# EAGLE library part SN65HVD230/1 (library texas_instruments)
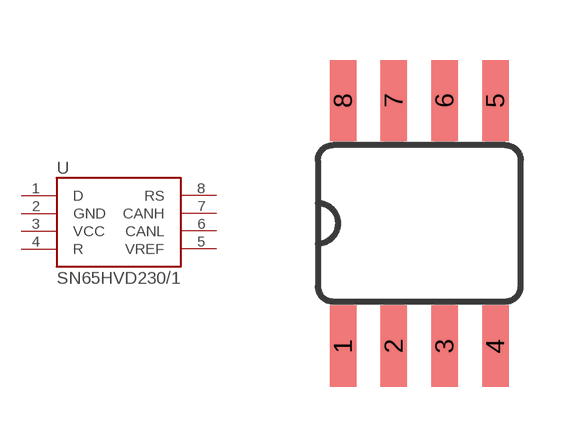
[diagram p1: symbol with the pads of SO8; footprint SO8]

Designator prefix -

## SN65HVD230/1  [SO8]
1  D
2  GND  pwr
3  VCC  pwr
4  R
5  VREF
6  CANL
7  CANH
8  RS

## Footprint SO8 (pad centres in mm)
smd 0.66 x 2.032: 1 -1.905,-3.073; 2 -0.635,-3.073; 3 0.635,-3.073; 4 1.905,-3.073; 5 1.905,3.073; 6 0.635,3.073; 7 -0.635,3.073; 8 -1.905,3.073